# Altium footprint library 901361106.PcbLib: 1 footprints
Each footprint in its own frame and in the unit in brackets; x right, y up, seen from the top. Pads: shape width x height; smd on the part's side, far side on the other; paste and mask are expansions set on the pad; w line width, h text height; cw(c..) or ccw(c..) is an arc to the next point about the centre after c.
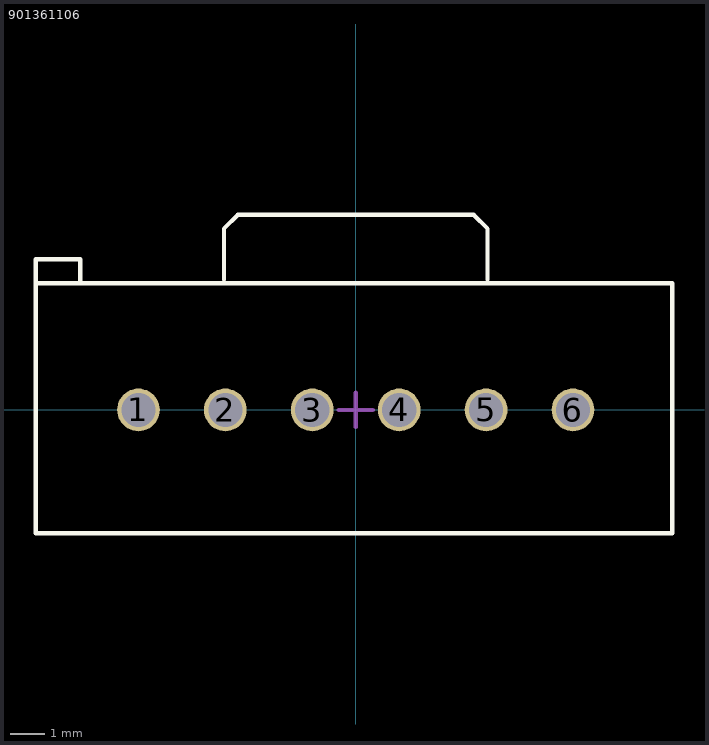
[diagram p0: the footprint, top view; thin cyan lines are the x and y axes]

## 901361106 [mm]
pads (6):
  round 1.25 hole 1 mask+0.1: 1(-6.35,0) 2(-3.81,0) 3(-1.27,0) 4(1.27,0) 5(3.81,0) 6(6.35,0)
Top Overlay:
  lines w0.127: -8.05,3.7 -8.05,4.4 -9.35,4.4 -9.35,3.7 ; -3.85,3.8 -3.85,5.3 -3.45,5.7 3.45,5.7 3.85,5.3 3.85,3.8 ; -9.35,3.7 -9.35,-3.6 9.25,-3.6 9.25,3.7 -9.35,3.7
Mechanical 15:
  lines w0.127: -1.27,0 -0.77,0 ; -0.5,0 0,0 0.5,0 ; 0,-0.5 0,0.5
3D body "901361106.stp": height 10.91, standoff -2.89, extent -9.295,-3.605 9.295,3.605